# EAGLE library part RCTRL_CONNECTOR_IOS (library igorsales)
RCTRL's 3X6 HEADER with 2.54mm pitch and 5mm lead size
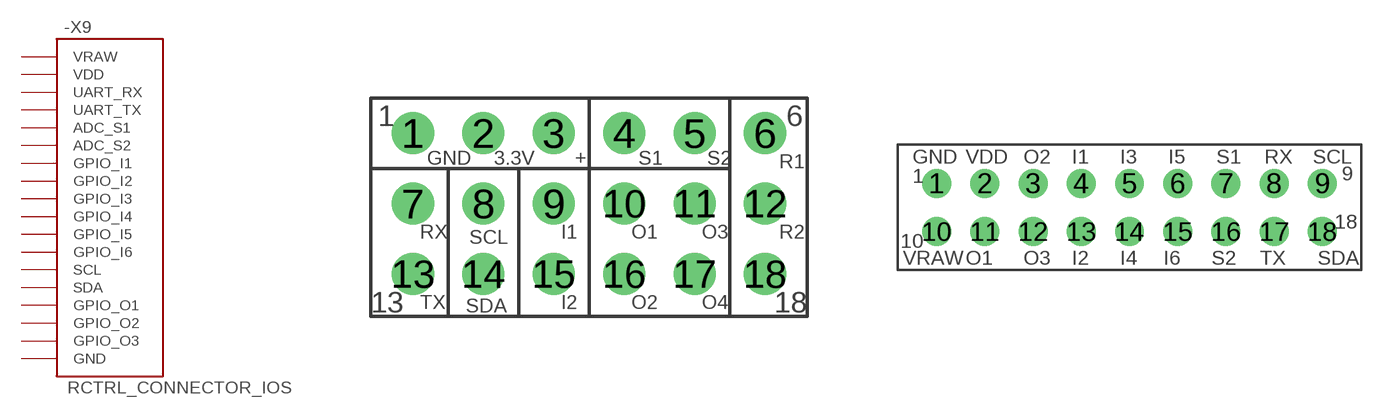
[diagram p1: symbol with the pads of HEADER3X6-2.54MM; footprints HEADER3X6-2.54MM, HEADER2X9-254MM]

Designator prefix -X9

## RCTRL_CONNECTOR_IOS-3X6  [HEADER3X6-2.54MM]
1  GND  pwr
2  VDD  pwr
3  VRAW  pwr
4  ADC_S1  in
5  ADC_S2  in
6  GPIO_O1  out
7  UART_RX
8  SCL
9  GPIO_I1  in
10  GPIO_I3  in
11  GPIO_I5  in
12  GPIO_O2  out
13  UART_TX
14  SDA
15  GPIO_I2  in
16  GPIO_I4  in
17  GPIO_I6  in
18  GPIO_O3  out

## RCTRL_CONNECTOR_IOS-2X9  [HEADER2X9-254MM]
1  GND  pwr
2  VDD  pwr
3  GPIO_O2  out
4  GPIO_I1  in
5  GPIO_I3  in
6  GPIO_I5  in
7  ADC_S1  in
8  UART_RX
9  SCL
10  VRAW  pwr
11  GPIO_O1  out
12  GPIO_O3  out
13  GPIO_I2  in
14  GPIO_I4  in
15  GPIO_I6  in
16  ADC_S2  in
17  UART_TX
18  SDA

## Footprint HEADER3X6-2.54MM (pad centres in mm)
Similar to Part: ED8040-18-ND (http://www.digikey.ca/product-search/en?vendor=0&keywords=ED8040-18-ND&stock=1)
drill 1.016: 1 -6.35,2.54; 2 -3.81,2.54; 3 -1.27,2.54; 4 1.27,2.54; 5 3.81,2.54; 6 6.35,2.54; 7 -6.35,0; 8 -3.81,0; 9 -1.27,0; 10 1.27,0; 11 3.81,0; 12 6.35,0; 13 -6.35,-2.54; 14 -3.81,-2.54; 15 -1.27,-2.54; 16 1.27,-2.54; 17 3.81,-2.54; 18 6.35,-2.54

## Footprint HEADER2X9-254MM (pad centres in mm)
drill 1.016: 1 -10.16,1.27; 2 -7.62,1.27; 3 -5.08,1.27; 4 -2.54,1.27; 5 0,1.27; 6 2.54,1.27; 7 5.08,1.27; 8 7.62,1.27; 9 10.16,1.27; 10 -10.16,-1.27; 11 -7.62,-1.27; 12 -5.08,-1.27; 13 -2.54,-1.27; 14 0,-1.27; 15 2.54,-1.27; 16 5.08,-1.27; 17 7.62,-1.27; 18 10.16,-1.27